# Altium footprint library CONN_SEAL.PcbLib: 1 footprints
Each footprint in its own frame and in the unit in brackets; x right, y up, seen from the top. Pads: shape width x height; smd on the part's side, far side on the other; paste and mask are expansions set on the pad; w line width, h text height; cw(c..) or ccw(c..) is an arc to the next point about the centre after c.
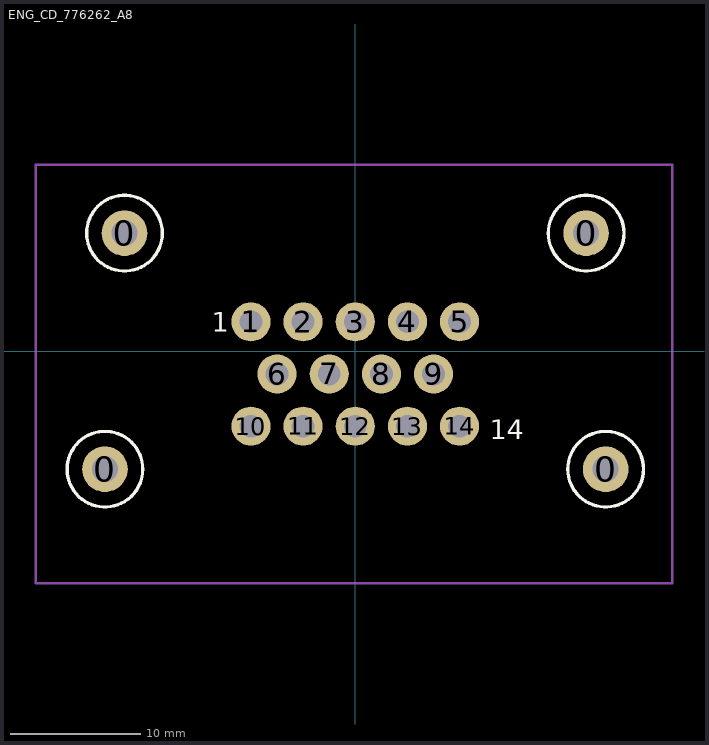
[diagram p0: the footprint, top view; thin cyan lines are the x and y axes]

## ENG_CD_776262_A8 [mm] "14 POS AMPSEAL VERTICAL HEADER"
pads (18):
  round 3.5 hole 2: 0(-19.2,-9.05) 0(-17.7,9.05) 0(17.7,9.05) 0(19.2,-9.05)
  round 3 hole 1.75: 1(-8,2.25) 2(-4,2.25) 3(0,2.25) 4(4,2.25) 5(8,2.25) 6(-6,-1.75) 7(-2,-1.75) 8(2,-1.75) 9(6,-1.75) 10(-8,-5.75) 11(-4,-5.75) 12(0,-5.75) 13(4,-5.75) 14(8,-5.75)
Top Overlay:
  circle w0.254: c-17.7,9.05 r2.901
  circle w0.254: c17.7,9.05 r2.901
  circle w0.254: c19.2,-9.05 r2.901
  circle w0.254: c-19.2,-9.05 r2.901
  text "1" at -11.016,1.485 h1.52
  text "14" at 10.316,-6.752 h1.52
ASM Top:
  lines w0.2: -24.5,-17.8 -24.5,14.3 24.3,14.3 24.3,-17.8 -24.5,-17.8
  text ".Designator" at -5.1,-4 h3
PNP Top:
  lines w0.2: -24.5,-17.8 24.3,-17.8 24.3,14.3 -24.5,14.3 -24.5,-17.8
3D body "c-1-776262-1-b-3d.stp": height 34.3, standoff -3.75, extent -24.476,-17.789 24.324,14.311